# Altium footprint library Discrete_Passive.PcbLib: 311 footprints (part 18 of 20)
Each footprint in its own frame and in the unit in brackets; x right, y up, seen from the top. Pads: shape width x height; smd on the part's side, far side on the other; paste and mask are expansions set on the pad; w line width, h text height; cw(c..) or ccw(c..) is an arc to the next point about the centre after c.
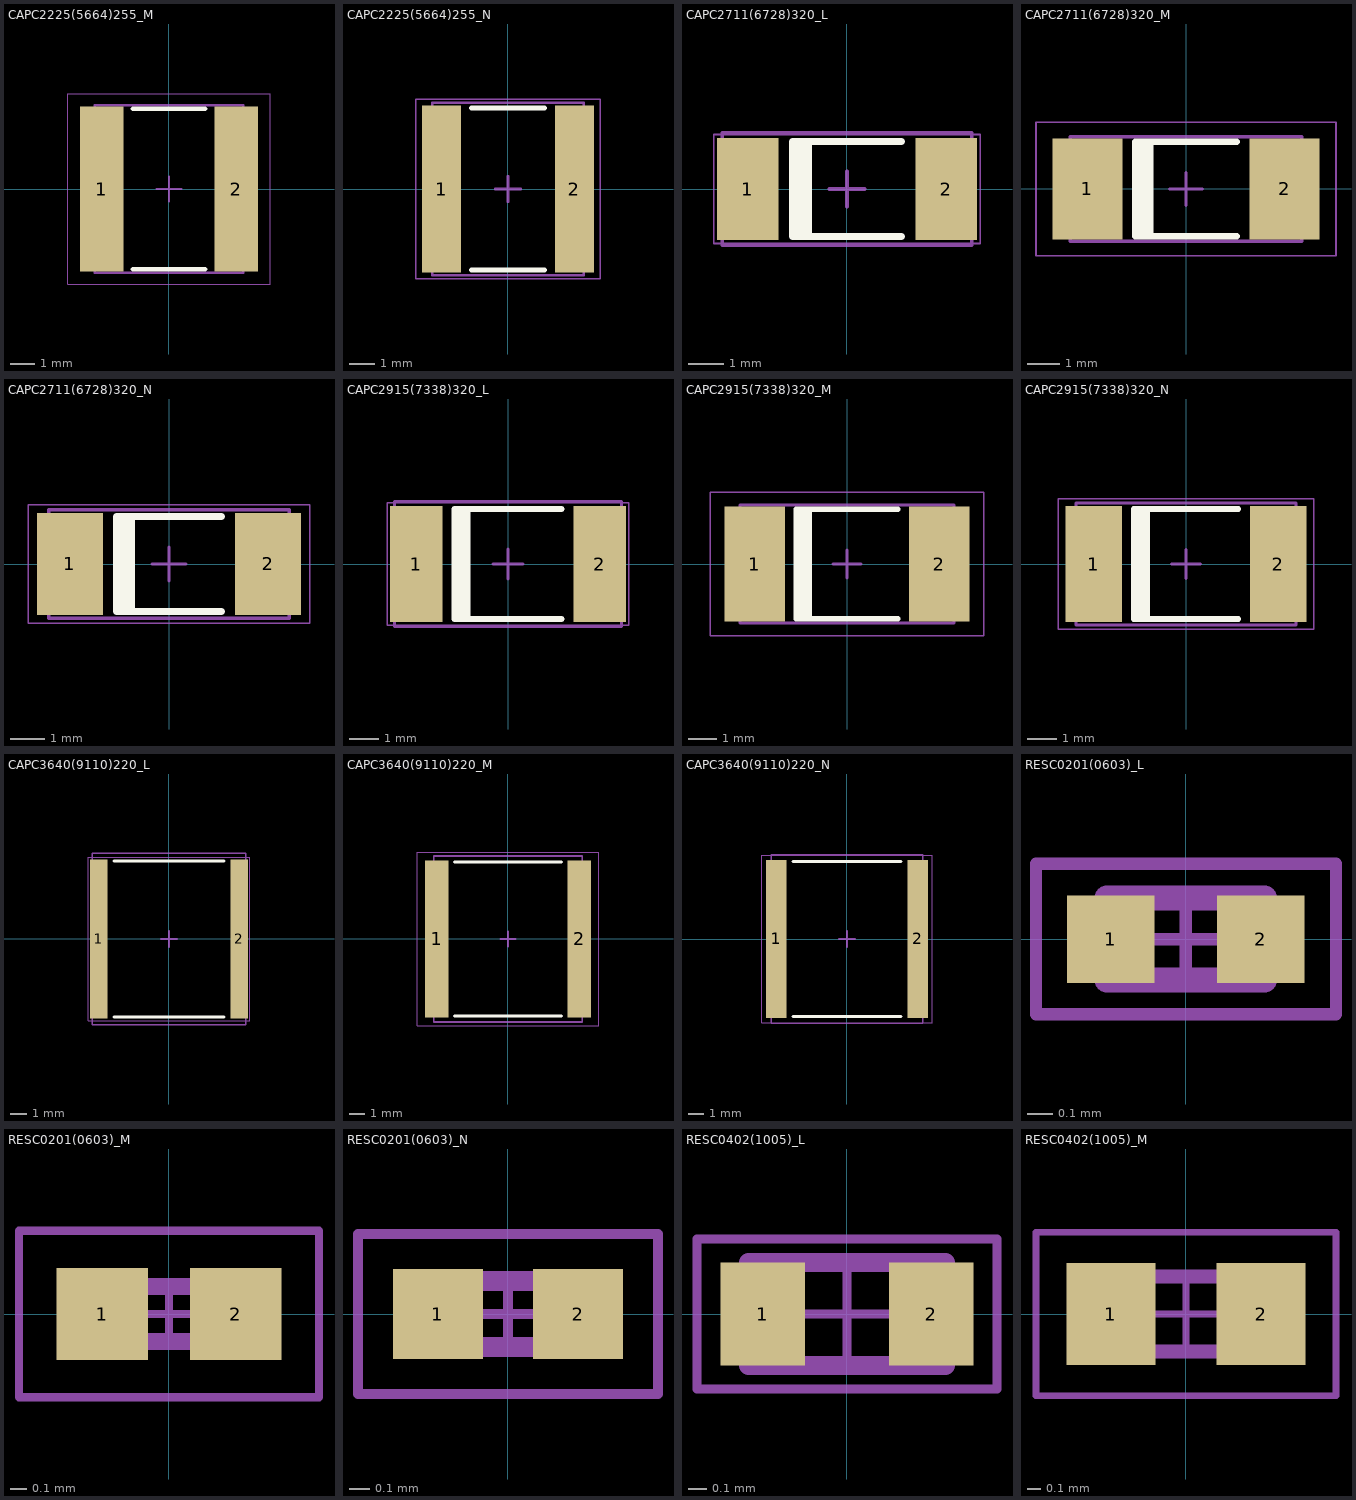
[diagram p17: the footprints below, top view; thin cyan lines are the x and y axes]

## CAPC2225(5664)255_M [mm] "Chip Capacitor, Body 5.7x6.4mm, Height 2.55mm, IPC Low Density"
height 2.55
pads (2):
  rect 1.75x6.7 smd: 1(-2.725,0) 2(2.725,0)
Top Overlay:
  lines w0.2: -1.45,-3.25 1.45,-3.25 ; -1.45,3.25 1.45,3.25
Mechanical 13:
  lines w0.1: -3,-3.4 3,-3.4 3,3.4 -3,3.4 -3,-3.4
Mechanical 15:
  lines w0.05: -4.1,-3.85 4.1,-3.85 4.1,3.85 -4.1,3.85 -4.1,-3.85
  lines w0.1: -0.5,0 0.5,0 ; 0,-0.5 0,0.5
3D body: height 2.55, standoff 0, extent 2.4,-3.4 3,3.4
3D body: height 2.55, standoff 0, extent -3,-3.4 -2.4,3.4
3D body: height 2.55, standoff 0, extent -2.4,-3.4 2.4,3.4

## CAPC2225(5664)255_N [mm] "Chip Capacitor, Body 5.7x6.4mm, Height 2.55mm, IPC Medium Density"
height 2.55
pads (2):
  rect 1.55x6.6 smd: 1(-2.625,0) 2(2.625,0)
Top Overlay:
  lines w0.2: -1.45,-3.2 1.45,-3.2 ; -1.45,3.2 1.45,3.2
Mechanical 13:
  lines w0.1: -3,-3.4 3,-3.4 3,3.4 -3,3.4 -3,-3.4
Mechanical 15:
  lines w0.05: -3.65,-3.55 3.65,-3.55 3.65,3.55 -3.65,3.55 -3.65,-3.55
  lines w0.1: -0.5,0 0.5,0 ; 0,-0.5 0,0.5
3D body: height 2.55, standoff 0, extent 2.4,-3.4 3,3.4
3D body: height 2.55, standoff 0, extent -3,-3.4 -2.4,3.4
3D body: height 2.55, standoff 0, extent -2.4,-3.4 2.4,3.4

## CAPC2711(6728)320_L [mm] "Chip Capacitor, Body 6.7x2.8mm, Height 3.2mm, IPC High Density"
height 3.2
pads (2):
  rect 1.75x2.9 smd: 1(-2.825,0) 2(2.825,0)
Top Overlay:
  rectangle: -1.55,-1.35 -1,1.35
  lines w0.2: 1.55,-1.35 -1.55,-1.35 -1.55,1.35 1.55,1.35
Mechanical 13:
  lines w0.1: -3.55,-1.6 3.55,-1.6 3.55,1.6 -3.55,1.6 -3.55,-1.6
Mechanical 15:
  lines w0.05: -3.8,-1.55 3.8,-1.55 3.8,1.55 -3.8,1.55 -3.8,-1.55
  lines w0.1: -0.5,0 0.5,0 ; 0,-0.5 0,0.5
3D body: height 3.2, standoff 0, extent 2.28,-1.6 3.55,1.6
3D body: height 3.2, standoff 0, extent -3.55,-1.6 -2.28,1.6
3D body: height 3.2, standoff 0, extent -2.28,-1.6 2.28,1.6

## CAPC2711(6728)320_M [mm] "Chip Capacitor, Body 6.7x2.8mm, Height 3.2mm, IPC Low Density"
height 3.2
pads (2):
  rect 2.15x3.1 smd: 1(-3.025,0) 2(3.025,0)
Top Overlay:
  rectangle: -1.55,-1.45 -1,1.45
  lines w0.2: 1.55,-1.45 -1.55,-1.45 -1.55,1.45 1.55,1.45
Mechanical 13:
  lines w0.1: -3.55,-1.6 -3.55,1.6 3.55,1.6 3.55,-1.6 -3.55,-1.6
Mechanical 15:
  lines w0.05: -4.6,-2.05 -4.6,2.05 4.6,2.05 4.6,-2.05 -4.6,-2.05
  lines w0.1: -0.5,0 0.5,0 ; 0,-0.5 0,0.5
3D body: height 3.2, standoff 0, extent -2.28,-1.6 2.28,1.6
3D body: height 3.2, standoff 0, extent -3.55,-1.6 -2.28,1.6
3D body: height 3.2, standoff 0, extent 2.28,-1.6 3.55,1.6

## CAPC2711(6728)320_N [mm] "Chip Capacitor, Body 6.7x2.8mm, Height 3.2mm, IPC Medium Density"
height 3.2
pads (2):
  rect 1.95x3 smd: 1(-2.925,0) 2(2.925,0)
Top Overlay:
  rectangle: -1.55,-1.4 -1,1.4
  lines w0.2: 1.55,-1.4 -1.55,-1.4 -1.55,1.4 1.55,1.4
Mechanical 13:
  lines w0.1: -3.55,-1.6 3.55,-1.6 3.55,1.6 -3.55,1.6 -3.55,-1.6
Mechanical 15:
  lines w0.05: -4.15,-1.75 4.15,-1.75 4.15,1.75 -4.15,1.75 -4.15,-1.75
  lines w0.1: -0.5,0 0.5,0 ; 0,-0.5 0,0.5
3D body: height 3.2, standoff 0, extent 2.28,-1.6 3.55,1.6
3D body: height 3.2, standoff 0, extent -3.55,-1.6 -2.28,1.6
3D body: height 3.2, standoff 0, extent -2.28,-1.6 2.28,1.6

## CAPC2915(7338)320_L [mm] "Chip Capacitor, Body 7.3x3.8mm, Height 3.2mm, IPC High Density"
height 3.2
pads (2):
  rect 1.75x3.9 smd: 1(-3.075,0) 2(3.075,0)
Top Overlay:
  rectangle: -1.8,-1.85 -1.25,1.85
  lines w0.2: 1.8,-1.85 -1.8,-1.85 -1.8,1.85 1.8,1.85
Mechanical 13:
  lines w0.1: -3.8,-2.1 3.8,-2.1 3.8,2.1 -3.8,2.1 -3.8,-2.1
Mechanical 15:
  lines w0.05: -4.05,-2.05 4.05,-2.05 4.05,2.05 -4.05,2.05 -4.05,-2.05
  lines w0.1: -0.5,0 0.5,0 ; 0,-0.5 0,0.5
3D body: height 3.2, standoff 0, extent 2.53,-2.1 3.8,2.1
3D body: height 3.2, standoff 0, extent -3.8,-2.1 -2.53,2.1
3D body: height 3.2, standoff 0, extent -2.53,-2.1 2.53,2.1

## CAPC2915(7338)320_M [mm] "Chip Capacitor, Body 7.3x3.8mm, Height 3.2mm, IPC Low Density"
height 3.2
pads (2):
  rect 2.15x4.1 smd: 1(-3.275,0) 2(3.275,0)
Top Overlay:
  rectangle: -1.8,-1.95 -1.25,1.95
  lines w0.2: 1.8,-1.95 -1.8,-1.95 -1.8,1.95 1.8,1.95
Mechanical 13:
  lines w0.1: -3.8,-2.1 3.8,-2.1 3.8,2.1 -3.8,2.1 -3.8,-2.1
Mechanical 15:
  lines w0.05: -4.85,-2.55 4.85,-2.55 4.85,2.55 -4.85,2.55 -4.85,-2.55
  lines w0.1: -0.5,0 0.5,0 ; 0,-0.5 0,0.5
3D body: height 3.2, standoff 0, extent 2.53,-2.1 3.8,2.1
3D body: height 3.2, standoff 0, extent -3.8,-2.1 -2.53,2.1
3D body: height 3.2, standoff 0, extent -2.53,-2.1 2.53,2.1

## CAPC2915(7338)320_N [mm] "Chip Capacitor, Body 7.3x3.8mm, Height 3.2mm, IPC Medium Density"
height 3.2
pads (2):
  rect 1.95x4 smd: 1(-3.175,0) 2(3.175,0)
Top Overlay:
  rectangle: -1.8,-1.9 -1.25,1.9
  lines w0.2: 1.8,-1.9 -1.8,-1.9 -1.8,1.9 1.8,1.9
Mechanical 13:
  lines w0.1: -3.8,-2.1 -3.8,2.1 3.8,2.1 3.8,-2.1 -3.8,-2.1
Mechanical 15:
  lines w0.05: -4.4,-2.25 -4.4,2.25 4.4,2.25 4.4,-2.25 -4.4,-2.25
  lines w0.1: -0.5,0 0.5,0 ; 0,-0.5 0,0.5
3D body: height 3.2, standoff 0, extent -2.53,-2.1 2.53,2.1
3D body: height 3.2, standoff 0, extent -3.8,-2.1 -2.53,2.1
3D body: height 3.2, standoff 0, extent 2.53,-2.1 3.8,2.1

## CAPC3640(9110)220_L [mm] "Chip Capacitor, Body 9.1x10.2mm, Height 2.2mm, IPC High Density"
height 2.2
pads (2):
  rect 1.1x9.85 smd: 1(-4.35,0) 2(4.35,0)
Top Overlay:
  lines w0.2: -3.4,-4.825 3.4,-4.825 ; -3.4,4.825 3.4,4.825
Mechanical 13:
  lines w0.1: -4.75,-5.3 4.75,-5.3 4.75,5.3 -4.75,5.3 -4.75,-5.3
Mechanical 15:
  lines w0.05: -5,-5.05 5,-5.05 5,5.05 -5,5.05 -5,-5.05
  lines w0.1: -0.5,0 0.5,0 ; 0,-0.5 0,0.5
3D body: height 2.2, standoff 0, extent 4.25,-5.3 4.75,5.3
3D body: height 2.2, standoff 0, extent -4.75,-5.3 -4.25,5.3
3D body: height 2.2, standoff 0, extent -4.25,-5.3 4.25,5.3

## CAPC3640(9110)220_M [mm] "Chip Capacitor, Body 9.1x10.2mm, Height 2.2mm, IPC Low Density"
height 2.2
pads (2):
  rect 1.5x10.05 smd: 1(-4.55,0) 2(4.55,0)
Top Overlay:
  lines w0.2: -3.4,-4.925 3.4,-4.925 ; -3.4,4.925 3.4,4.925
Mechanical 13:
  lines w0.1: -4.75,-5.3 4.75,-5.3 4.75,5.3 -4.75,5.3 -4.75,-5.3
Mechanical 15:
  lines w0.05: -5.8,-5.55 5.8,-5.55 5.8,5.55 -5.8,5.55 -5.8,-5.55
  lines w0.1: -0.5,0 0.5,0 ; 0,-0.5 0,0.5
3D body: height 2.2, standoff 0, extent 4.25,-5.3 4.75,5.3
3D body: height 2.2, standoff 0, extent -4.75,-5.3 -4.25,5.3
3D body: height 2.2, standoff 0, extent -4.25,-5.3 4.25,5.3

## CAPC3640(9110)220_N [mm] "Chip Capacitor, Body 9.1x10.2mm, Height 2.2mm, IPC Medium Density"
height 2.2
pads (2):
  rect 1.3x9.95 smd: 1(-4.45,0) 2(4.45,0)
Top Overlay:
  lines w0.2: -3.4,-4.875 3.4,-4.875 ; -3.4,4.875 3.4,4.875
Mechanical 13:
  lines w0.1: -4.75,-5.3 -4.75,5.3 4.75,5.3 4.75,-5.3 -4.75,-5.3
Mechanical 15:
  lines w0.05: -5.35,-5.25 -5.35,5.25 5.35,5.25 5.35,-5.25 -5.35,-5.25
  lines w0.1: -0.5,0 0.5,0 ; 0,-0.5 0,0.5
3D body: height 2.2, standoff 0, extent -4.25,-5.3 4.25,5.3
3D body: height 2.2, standoff 0, extent -4.75,-5.3 -4.25,5.3
3D body: height 2.2, standoff 0, extent 4.25,-5.3 4.75,5.3

## RESC0201(0603)_L [mm] "Chip Resistor, Body 0.6x0.3mm, IPC High Density"
height 0.3
pads (2):
  rect 0.35x0.35 smd: 1(-0.3,0) 2(0.3,0)
Mechanical 13:
  lines w0.1: -0.315,-0.165 0.315,-0.165 0.315,0.165 -0.315,0.165 -0.315,-0.165
Mechanical 15:
  lines w0.05: -0.165,0 0.165,0 ; 0,-0.165 0,0.165 ; -0.6,-0.3 0.6,-0.3 0.6,0.3 -0.6,0.3 -0.6,-0.3
3D body: height 0.3, standoff 0, extent 0.171,-0.164 0.315,0.165
3D body: height 0.3, standoff 0, extent -0.17,-0.164 0.171,0.165
3D body: height 0.3, standoff 0, extent -0.314,-0.164 -0.17,0.165

## RESC0201(0603)_M [mm] "Chip Resistor, Body 0.6x0.3mm, IPC Low Density"
height 0.3
pads (2):
  rect 0.55x0.55 smd: 1(-0.4,0) 2(0.4,0)
Mechanical 13:
  lines w0.1: -0.315,-0.165 -0.315,0.165 0.315,0.165 0.315,-0.165 -0.315,-0.165
Mechanical 15:
  lines w0.05: -0.165,0 0.165,0 ; 0,-0.165 0,0.165 ; -0.9,-0.5 -0.9,0.5 0.9,0.5 0.9,-0.5 -0.9,-0.5
3D body: height 0.3, standoff 0, extent -0.314,-0.164 -0.17,0.165
3D body: height 0.3, standoff 0, extent -0.17,-0.164 0.171,0.165
3D body: height 0.3, standoff 0, extent 0.171,-0.164 0.315,0.165

## RESC0201(0603)_N [mm] "Chip Resistor, Body 0.6x0.3mm, IPC Medium Density"
height 0.3
pads (2):
  rect 0.45x0.45 smd: 1(-0.35,0) 2(0.35,0)
Mechanical 13:
  lines w0.1: -0.315,-0.165 -0.315,0.165 0.315,0.165 0.315,-0.165 -0.315,-0.165
Mechanical 15:
  lines w0.05: -0.165,0 0.165,0 ; 0,-0.165 0,0.165 ; -0.75,-0.4 -0.75,0.4 0.75,0.4 0.75,-0.4 -0.75,-0.4
3D body: height 0.3, standoff 0, extent -0.314,-0.164 -0.17,0.165
3D body: height 0.3, standoff 0, extent -0.17,-0.164 0.171,0.165
3D body: height 0.3, standoff 0, extent 0.171,-0.164 0.315,0.165

## RESC0402(1005)_L [mm] "Chip Resistor, Body 1.0x0.5mm, IPC High Density"
height 0.4
pads (2):
  rect 0.45x0.55 smd: 1(-0.45,0) 2(0.45,0)
Mechanical 13:
  lines w0.1: -0.525,-0.275 -0.525,0.275 0.525,0.275 0.525,-0.275 -0.525,-0.275
Mechanical 15:
  lines w0.05: -0.275,0 0.275,0 ; 0,-0.275 0,0.275 ; -0.8,-0.4 -0.8,0.4 0.8,0.4 0.8,-0.4 -0.8,-0.4
3D body: height 0.4, standoff 0, extent -0.525,-0.275 -0.3,0.275
3D body: height 0.4, standoff 0, extent -0.3,-0.275 0.3,0.275
3D body: height 0.4, standoff 0, extent 0.3,-0.275 0.525,0.275

## RESC0402(1005)_M [mm] "Chip Resistor, Body 1.0x0.5mm, IPC Low Density"
height 0.4
pads (2):
  rect 0.65x0.75 smd: 1(-0.55,0) 2(0.55,0)
Mechanical 13:
  lines w0.1: -0.525,-0.275 -0.525,0.275 0.525,0.275 0.525,-0.275 -0.525,-0.275
Mechanical 15:
  lines w0.05: -0.275,0 0.275,0 ; 0,-0.275 0,0.275 ; -1.1,-0.6 -1.1,0.6 1.1,0.6 1.1,-0.6 -1.1,-0.6
3D body: height 0.4, standoff 0, extent -0.525,-0.275 -0.3,0.275
3D body: height 0.4, standoff 0, extent -0.3,-0.275 0.3,0.275
3D body: height 0.4, standoff 0, extent 0.3,-0.275 0.525,0.275